# Altium footprint library SMD_C1206-C0805.PcbLib: 1 footprints
Each footprint in its own frame and in the unit in brackets; x right, y up, seen from the top. Pads: shape width x height; smd on the part's side, far side on the other; paste and mask are expansions set on the pad; w line width, h text height; cw(c..) or ccw(c..) is an arc to the next point about the centre after c.
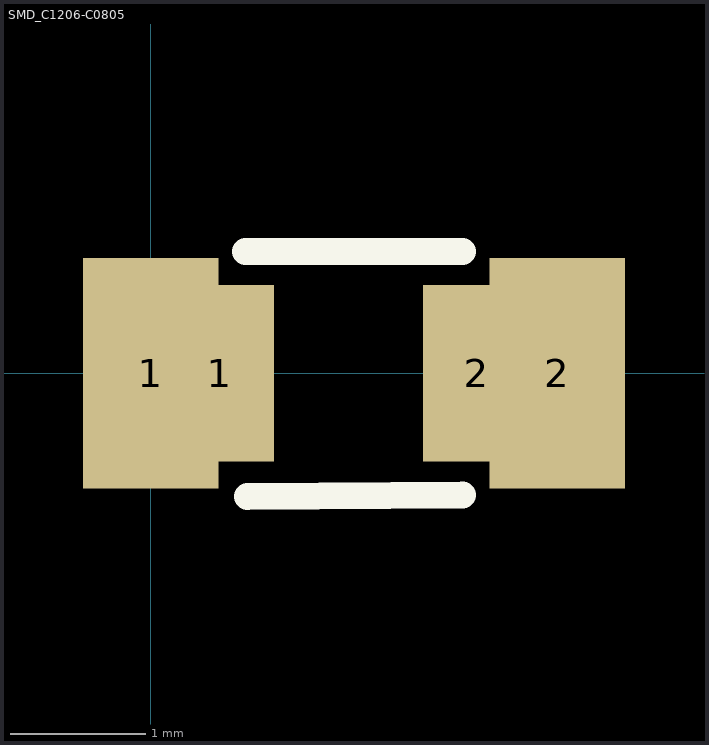
[diagram p0: the footprint, top view; thin cyan lines are the x and y axes]

## SMD_C1206-C0805 [mm]
height 1.27
pads (4):
  rect 1x1.7 smd: 1(0,0) 2(3,0)
  rect 0.8x1.3 smd: 1(0.508,0) 2(2.408,0)
Top Overlay:
  lines w0.2: 0.7,0.9 2.3,0.9 ; 0.714,-0.911 2.3,-0.9
Mechanical 15:
  text ".Designator" at -0.5,-0.467 h1
3D body "SMD_C1206.step": height 1.9, standoff 0, extent -0.25,-0.95 3.25,0.95